# Altium footprint library LM2677T-ADJ&slash_NOPB.PcbLib: 1 footprints
Each footprint in its own frame and in the unit in brackets; x right, y up, seen from the top. Pads: shape width x height; smd on the part's side, far side on the other; paste and mask are expansions set on the pad; w line width, h text height; cw(c..) or ccw(c..) is an arc to the next point about the centre after c.
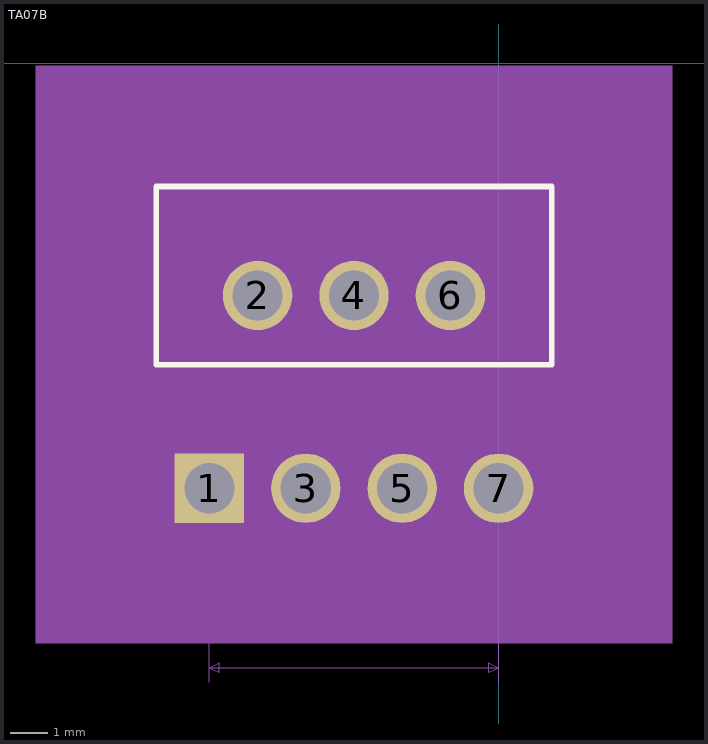
[diagram p0: the footprint, top view; thin cyan lines are the x and y axes]

## TA07B [mil]
pads (7):
  rect 72x72 hole 52: 1(-300,-441)
  round 72 hole 52: 2(-250,-241) 3(-200,-441) 4(-150,-241) 5(-100,-441) 6(-50,-241) 7(0,-441)
Top Overlay:
  lines w6: -355,-313 55,-313 55,-128 -355,-128 -355,-313
Mechanical 5:
  region: -480,-3 180,-3 180,-602 -480,-602
Mechanical 7:
  lines w1: -420,-313 -355,-313 ; -420,-128 -355,-128 -355,-63 ; -350,-527 -300,-527 ; -300,-642 -300,-441 -300,-542 ; -250,-542 -250,-241 ; -200,-527 -250,-527 ; -50,-241 120,-241 ; 0,-642 0,-441 120,-441 ; 55,-128 55,-63 ; -405,-313 -405,-128 ; -405,-313 -410,-303 -400,-303 -405,-313 ; -405,-128 -410,-138 -400,-138 -405,-128 ; -355,-78 55,-78 ; -355,-78 -345,-73 -345,-83 -355,-78 ; -300,-627 0,-627 ; -300,-627 -290,-622 -290,-632 -300,-627 ; -300,-527 -310,-522 -310,-532 -300,-527 ; -250,-527 -240,-522 -240,-532 -250,-527 ; 0,-627 -10,-622 -10,-632 0,-627 ; 55,-78 45,-73 45,-83 55,-78 ; 105,-441 105,-241 ; 105,-441 100,-431 110,-431 105,-441 ; 105,-241 100,-251 110,-251 105,-241
  text "Default Padstyle: EX72Y72D52P" at -512.5,-777 h50
  text "Pin 1 Padstyle: SX72Y72D52P" at -487.5,-852 h50
  text ".3in/7.62mm" at -218.75,-672 h25
  text ".05in/1.27mm" at -350,-572 h25
  text ".2in/5.08mm" at 125,-353.5 h25
  text ".41in/10.414mm" at -237.5,-58 h25
  text ".185in/4.699mm" at -600,-233 h25
Mechanical 13:
  lines w1: -355,-313 55,-313 55,-128 -355,-128 -355,-313
Mechanical 15:
  region: 65,-118 -365,-118 -365,-487 65,-487
  lines w6: -365,-487 -365,-118 65,-118 65,-487 -365,-487
3D body: height 10, standoff 0, extent 0,0 10,10